# Altium footprint library CustomParts.PcbLib: 113 footprints (part 6 of 8)
Each footprint in its own frame and in the unit in brackets; x right, y up, seen from the top. Pads: shape width x height; smd on the part's side, far side on the other; paste and mask are expansions set on the pad; w line width, h text height; cw(c..) or ccw(c..) is an arc to the next point about the centre after c.
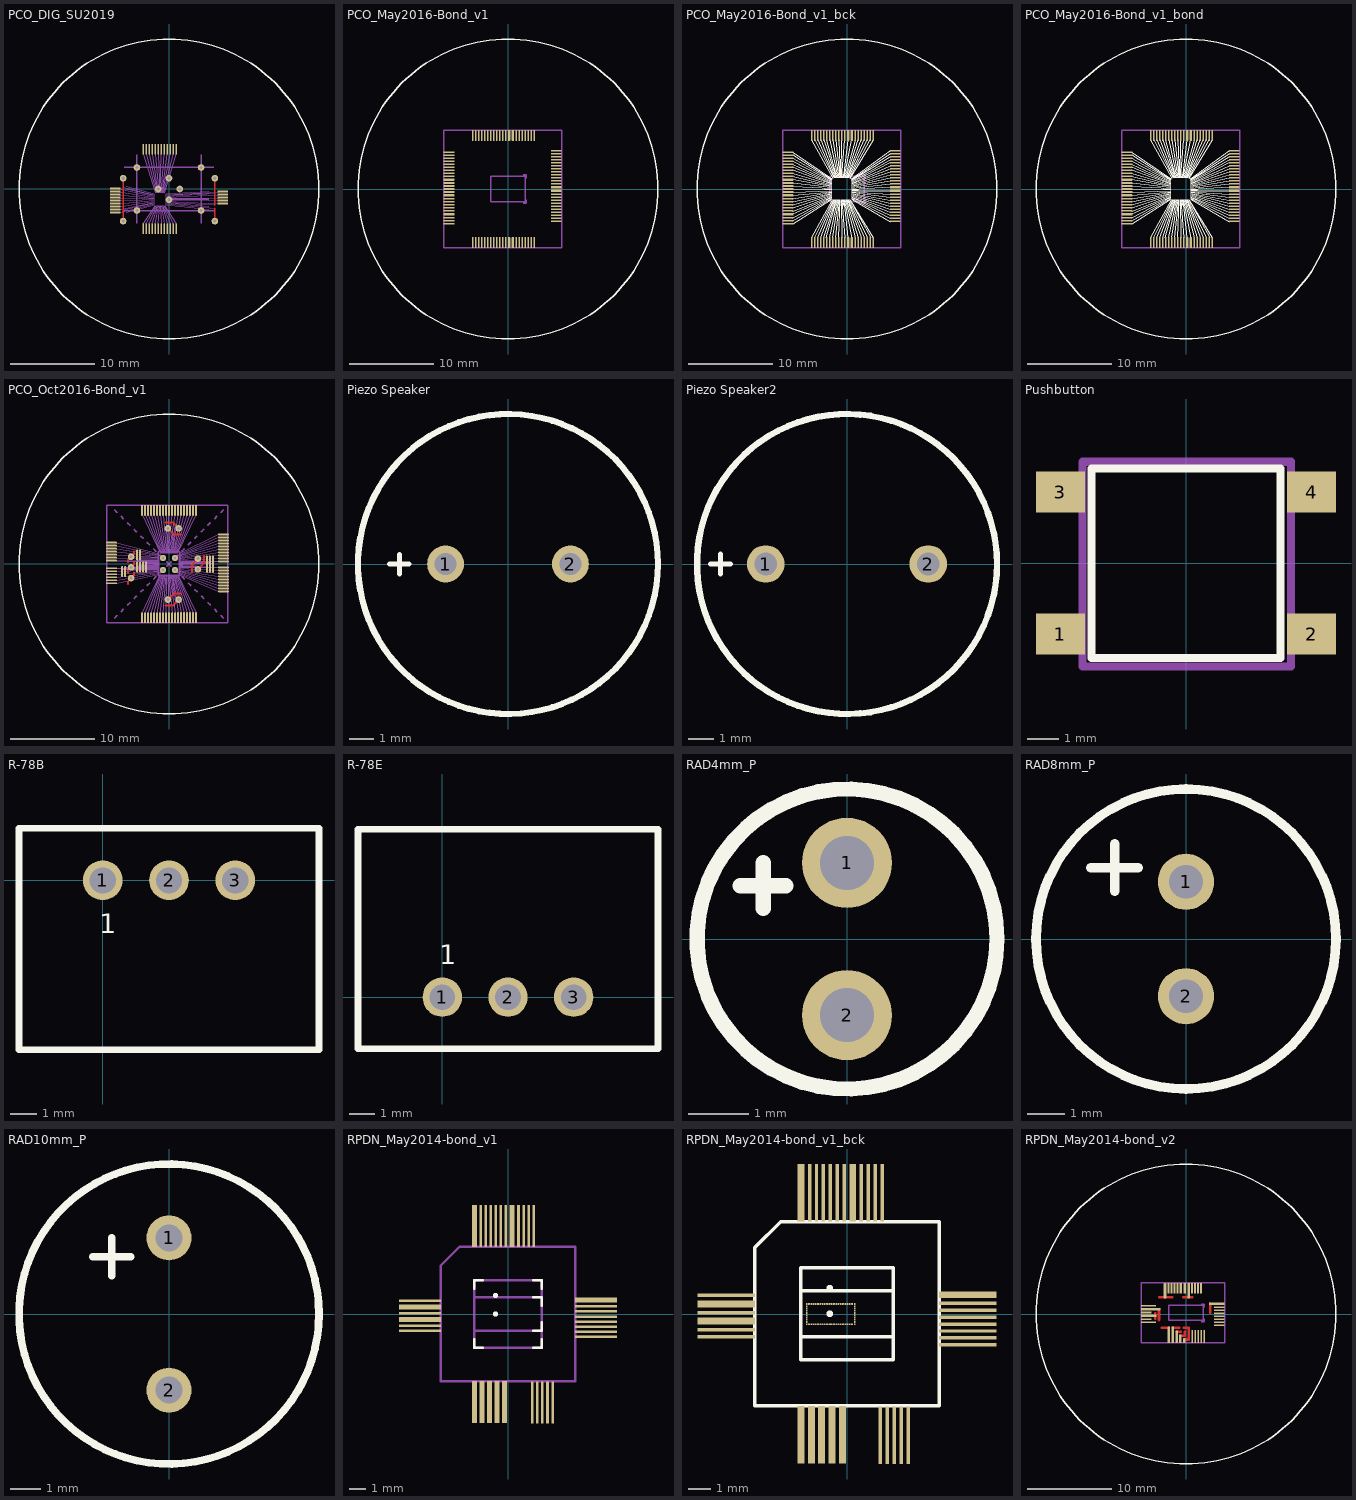
[diagram p5: the footprints below, top view; thin cyan lines are the x and y axes]

## PCO_DIG_SU2019 [mil] "Chip 5x7.5 mm. Die with margins ~ 5.1x7.6 mm. 1.5 mm bonding margin per side"
pads (102):
  round 31 hole 15: 1(-149.61,100.39) 2(-214,50) 3(-149.61,-100.39) 12(-214,-150) 14(-50,0) 27(0,-50) 28(214,-150) 29(50,0) 33(0,50) 34(149.61,-100.39) 37(214,50) 38(149.61,100.39)
  rrect50% 3.15x3.15 on Mech13 paste+0 mask+0: 1(-69.05,-21.82) 2(-69.05,-25.76) 3(-69.05,-29.69) 4(-69.05,-33.63) 5(-69.05,-37.57) 6(-69.05,-41.5) 7(-69.05,-45.44) 8(-69.05,-49.38) 9(-69.05,-53.31) 10(-69.05,-57.25) 11(-69.05,-61.19) 12(-69.05,-65.13) 13(-69.05,-69.06) 14(-69.05,-73) 15(-64.13,-77.92) 16(-60.19,-77.92) 17(-56.25,-77.92) 18(-52.31,-77.92) 19(-48.38,-77.92) 20(-44.44,-77.92) 21(-40.5,-77.92) 22(-36.57,-77.92) 23(-32.63,-77.92) 24(-28.69,-77.92) 25(-24.76,-77.92) 26(-20.82,-77.92) 27(-15.9,-73) 28(-15.9,-69.06) 29(-15.9,-65.13) 30(-15.9,-61.19) 31(-15.9,-57.25) 32(-15.9,-53.31) 33(-15.9,-49.38) 34(-15.9,-45.44) 35(-15.9,-41.5) 36(-15.9,-37.57) 37(-15.9,-33.63) 38(-15.9,-29.69) 39(-15.9,-25.76) 40(-15.9,-21.82) 41(-20.82,-16.9) 42(-24.76,-16.9) 43(-28.69,-16.9) 44(-32.63,-16.9) 45(-36.57,-16.9) 46(-40.5,-16.9) 47(-44.44,-16.9) 48(-48.38,-16.9) 49(-52.31,-16.9) 50(-56.25,-16.9) 51(-60.19,-16.9) 52(-64.13,-16.9)
  rrect50% 50x8 smd paste+0 mask+0: 4(-251,2) 5(-251,-12) 6(-251,-26) 7(-251,-40) 8(-251,-54) 9(-251,-68) 10(-251,-82) 11(-251,-96) 13(-251,-110) 31(251,-68) 32(251,-54) 35(251,-40) 36(251,-26) 39(251,-12)
  rrect50% 8x50 smd paste+0 mask+0: 15(-120,-185) 16(-106,-185) 17(-92,-185) 18(-78,-185) 19(-64,-185) 20(-50,-185) 21(-36,-185) 22(-22,-185) 23(-8,-185) 24(6,-185) 25(20,-185) 26(34,-185) 41(34,185) 42(20,185) 43(6,185) 44(-8,185) 45(-22,185) 46(-36,185) 47(-50,185) 48(-64,185) 49(-78,185) 50(-92,185) 51(-106,185) 52(-120,185)
Top Layer:
  lines w8: -214,-150 -214,50 ; 214,-150 214,-90 ; 214,-75 214,50
Top Overlay:
  circle w6: c0,0 r700
Top Solder:
  rectangle: -276,-210 276,210
Mechanical 13:
  lines w6: -208.66,-100.39 208.66,-100.39 ; -208.66,100.39 208.66,100.39 ; -149.61,-159.45 -149.61,159.45 ; 149.61,-159.45 149.61,159.45
Mechanical 16:
  lines w1.5: -235,-110 -69,-69 ; -235,-96 -69,-61 ; -235,-82 -69,-57 ; -235,-68 -69,-53 ; -235,-54 -69,-49 ; -235,-40 -69,-45 ; -235,-26 -69,-42 ; -235,-12 -69,-38 ; -235,2 -69,-34 ; -214,-98 -69,-65 ; -214,9 -69,-26 ; -200,-109 -69,-73 ; -200,0 -69,-30 ; -200,12 -69,-22 ; -120,-163 -64,-78 ; -120,163 -64,-17 ; -106,-163 -60,-78 ; -106,163 -60,-17 ; -92,-163 -56,-78 ; -92,163 -56,-17 ; -78,-163 -52,-78 ; -78,163 -52,-17 ; -64,-163 -48,-78 ; -64,163 -48,-17 ; -50,-163 -44,-78 ; -50,163 -44,-17 ; -40,-78 -36,-163 ; -40,-17 -36,163 ; -36,-78 -22,-163 ; -36,-17 -22,163 ; -32,-78 -8,-163 ; -32,-17 -8,163 ; -29,-78 6,-163 ; -29,-17 6,163 ; -25,-78 20,-163 ; -25,-17 20,163 ; -21,-78 34,-163 ; -21,-17 34,163 ; -16,-73 185,-95 ; -16,-69 214,-90 ; -16,-65 185,-80 ; -16,-61 214,-73 ; -16,-57 235,-68 ; -16,-53 235,-54 ; -16,-49 185,-50 ; -16,-45 185,-45 ; -16,-42 235,-40 ; -16,-38 235,-26 ; -16,-34 214,-20 ; -16,-30 185,-18 ; -16,-26 235,-12 ; -16,-22 185,-10

## PCO_May2016-Bond_v1 [mm]
pads (184):
  rrect50% 1.27x0.203 smd mask+0: 1(-6.985,-4.115) 2(-6.985,-3.759) 3(-6.985,-3.404) 5(-6.985,-2.591) 6(-6.985,-2.235) 7(-6.985,-1.88) 8(-6.985,-1.524) 9(-6.985,-1.168) 11(-6.985,-0.356) 12(-6.985,0) 14(-6.985,0.356) 15(-6.985,0.711) 17(-6.985,1.524) 18(-6.985,1.88) 19(-6.985,2.235) 20(-6.985,2.591) 21(-6.985,2.946) 22(-6.985,3.302) 23(-6.985,3.658) 24(-6.985,4.013) 25(-6.985,4.369) 48(5.715,4.547) 49(5.715,4.191) 50(5.715,3.835) 51(5.715,3.48) 52(5.715,3.124) 53(5.715,2.769) 54(5.715,2.413) 55(5.715,2.057) 56(5.715,1.702) 57(5.715,1.346) 58(5.715,0.991) 59(5.715,0.635) 63(5.715,-0.635) 64(5.715,-0.991) 65(5.715,-1.346) 66(5.715,-1.702) 67(5.715,-2.057) 68(5.715,-2.413) 69(5.715,-2.769) 70(5.715,-3.124) 71(5.715,-3.48) 72(5.715,-3.835)
  rrect50% 0.08x0.08 on Mech13 paste+0 mask+0: 1(-1.8,-1.2) 2(-1.8,-1.1) 3(-1.8,-1) 4(-1.8,-0.9) 5(-1.8,-0.8) 6(-1.8,-0.7) 7(-1.8,-0.6) 8(-1.8,-0.5) 9(-1.8,-0.4) 10(-1.8,-0.3) 11(-1.8,-0.2) 12(-1.8,-0.1) 13(-1.8,0) 14(-1.8,0.1) 15(-1.8,0.2) 16(-1.8,0.3) 17(-1.8,0.4) 18(-1.8,0.5) 19(-1.8,0.6) 20(-1.8,0.7) 21(-1.8,0.8) 22(-1.8,0.9) 23(-1.8,1) 24(-1.8,1.1) 25(-1.8,1.2) 26(-1.7,1.3) 27(-1.6,1.3) 28(-1.5,1.3) 29(-1.4,1.3) 30(-1.3,1.3) 31(-1.2,1.3) 32(-1.1,1.3) 33(-1,1.3) 34(-0.9,1.3) 35(-0.8,1.3) 36(-0.7,1.3) 37(-0.6,1.3) 38(-0.5,1.3) 39(-0.4,1.3) 40(-0.3,1.3) 41(-0.2,1.3) 42(-0.1,1.3) 43(0,1.3) 44(0.1,1.3) 45(0.2,1.3) 46(0.3,1.3) 47(0.4,1.3) 48(0.5,1.2) 49(0.5,1.1) 50(0.5,1) 51(0.5,0.9) 52(0.5,0.8) 53(0.5,0.7) 54(0.5,0.6) 55(0.5,0.5) 56(0.5,0.4) 57(0.5,0.3) 58(0.5,0.2) 59(0.5,0.1) 60(0.5,0) 61(0.5,-0.1) 62(0.5,-0.2) 63(0.5,-0.3) 64(0.5,-0.4) 65(0.5,-0.5) 66(0.5,-0.6) 67(0.5,-0.7) 68(0.5,-0.8) 69(0.5,-0.9) 70(0.5,-1) 71(0.5,-1.1) 72(0.5,-1.2) 73(0.4,-1.3) 74(0.3,-1.3) 75(0.2,-1.3) 76(0.1,-1.3) 77(0,-1.3) 78(-0.1,-1.3) 79(-0.2,-1.3) 80(-0.3,-1.3) 81(-0.4,-1.3) 82(-0.5,-1.3) 83(-0.6,-1.3) 84(-0.7,-1.3) 85(-0.8,-1.3) 86(-0.9,-1.3) 87(-1,-1.3) 88(-1.1,-1.3) 89(-1.2,-1.3) 90(-1.3,-1.3) 91(-1.4,-1.3) 92(-1.5,-1.3) 93(-1.6,-1.3) 94(-1.7,-1.3)
  rrect50% 1.27x0.305 smd mask+0: 4(-6.985,-2.997) 10(-6.985,-0.762) 16(-6.985,1.118) 60(5.715,0.229) 62(5.715,-0.229)
  rrect50% 0.203x1.27 smd mask+0: 26(-4.191,6.35) 27(-3.835,6.35) 28(-3.48,6.35) 29(-3.124,6.35) 30(-2.769,6.35) 31(-2.413,6.35) 32(-2.057,6.35) 33(-1.702,6.35) 34(-1.346,6.35) 35(-0.991,6.35) 36(-0.635,6.35) 37(-0.279,6.35) 41(0.991,6.35) 42(1.346,6.35) 43(1.702,6.35) 44(2.057,6.35) 45(2.413,6.35) 46(2.769,6.35) 47(3.124,6.35) 73(3.124,-6.35) 74(2.769,-6.35) 75(2.413,-6.35) 76(2.057,-6.35) 77(1.702,-6.35) 78(1.346,-6.35) 79(0.991,-6.35) 83(-0.279,-6.35) 84(-0.635,-6.35) 85(-0.991,-6.35) 86(-1.346,-6.35) 87(-1.702,-6.35) 88(-2.057,-6.35) 89(-2.413,-6.35) 90(-2.769,-6.35) 91(-3.124,-6.35) 92(-3.48,-6.35) 93(-3.835,-6.35) 94(-4.191,-6.35)
  rrect50% 0.305x1.27 smd mask+0: 39(0.127,6.35) 40(0.584,6.35) 80(0.584,-6.35) 81(0.127,-6.35)
Top Overlay:
  circle w0.152: c0,0 r17.78
Top Solder:
  rectangle: 1.727,-1.6 2.108,1.626
  rectangle: 2.108,-1.219 2.261,1.219
  rectangle: 2.261,-6.985 6.35,6.985
  rectangle: -7.62,-6.985 1.727,6.985
  rectangle: 1.727,-6.985 2.261,-1.753
  rectangle: 1.727,1.753 2.261,6.985
Mechanical 13:
  lines w0.152: 1.803,-1.676 2.184,-1.676 2.184,-1.295 ; 1.803,1.676 2.184,1.676 2.184,1.295 ; -7.62,-6.985 6.35,-6.985 6.35,6.985 -7.62,6.985 -7.62,-6.985 ; -2.032,-1.524 2.032,-1.524 2.032,1.524 -2.032,1.524 -2.032,-1.524

## PCO_May2016-Bond_v1_bck [mm]
pads (184):
  rrect50% 1.27x0.203 smd mask+0: 1(-6.985,-4.115) 2(-6.985,-3.759) 3(-6.985,-3.404) 5(-6.985,-2.591) 6(-6.985,-2.235) 7(-6.985,-1.88) 8(-6.985,-1.524) 9(-6.985,-1.168) 11(-6.985,-0.356) 12(-6.985,0) 14(-6.985,0.356) 15(-6.985,0.711) 17(-6.985,1.524) 18(-6.985,1.88) 19(-6.985,2.235) 20(-6.985,2.591) 21(-6.985,2.946) 22(-6.985,3.302) 23(-6.985,3.658) 24(-6.985,4.013) 25(-6.985,4.369) 48(5.715,4.547) 49(5.715,4.191) 50(5.715,3.835) 51(5.715,3.48) 52(5.715,3.124) 53(5.715,2.769) 54(5.715,2.413) 55(5.715,2.057) 56(5.715,1.702) 57(5.715,1.346) 58(5.715,0.991) 59(5.715,0.635) 63(5.715,-0.635) 64(5.715,-0.991) 65(5.715,-1.346) 66(5.715,-1.702) 67(5.715,-2.057) 68(5.715,-2.413) 69(5.715,-2.769) 70(5.715,-3.124) 71(5.715,-3.48) 72(5.715,-3.835)
  rrect50% 0.08x0.08 on Mech13 paste+0 mask+0: 1(-1.8,-1.2) 2(-1.8,-1.1) 3(-1.8,-1) 4(-1.8,-0.9) 5(-1.8,-0.8) 6(-1.8,-0.7) 7(-1.8,-0.6) 8(-1.8,-0.5) 9(-1.8,-0.4) 10(-1.8,-0.3) 11(-1.8,-0.2) 12(-1.8,-0.1) 13(-1.8,0) 14(-1.8,0.1) 15(-1.8,0.2) 16(-1.8,0.3) 17(-1.8,0.4) 18(-1.8,0.5) 19(-1.8,0.6) 20(-1.8,0.7) 21(-1.8,0.8) 22(-1.8,0.9) 23(-1.8,1) 24(-1.8,1.1) 25(-1.8,1.2) 26(-1.7,1.3) 27(-1.6,1.3) 28(-1.5,1.3) 29(-1.4,1.3) 30(-1.3,1.3) 31(-1.2,1.3) 32(-1.1,1.3) 33(-1,1.3) 34(-0.9,1.3) 35(-0.8,1.3) 36(-0.7,1.3) 37(-0.6,1.3) 38(-0.5,1.3) 39(-0.4,1.3) 40(-0.3,1.3) 41(-0.2,1.3) 42(-0.1,1.3) 43(0,1.3) 44(0.1,1.3) 45(0.2,1.3) 46(0.3,1.3) 47(0.4,1.3) 48(0.5,1.2) 49(0.5,1.1) 50(0.5,1) 51(0.5,0.9) 52(0.5,0.8) 53(0.5,0.7) 54(0.5,0.6) 55(0.5,0.5) 56(0.5,0.4) 57(0.5,0.3) 58(0.5,0.2) 59(0.5,0.1) 60(0.5,0) 61(0.5,-0.1) 62(0.5,-0.2) 63(0.5,-0.3) 64(0.5,-0.4) 65(0.5,-0.5) 66(0.5,-0.6) 67(0.5,-0.7) 68(0.5,-0.8) 69(0.5,-0.9) 70(0.5,-1) 71(0.5,-1.1) 72(0.5,-1.2) 73(0.4,-1.3) 74(0.3,-1.3) 75(0.2,-1.3) 76(0.1,-1.3) 77(0,-1.3) 78(-0.1,-1.3) 79(-0.2,-1.3) 80(-0.3,-1.3) 81(-0.4,-1.3) 82(-0.5,-1.3) 83(-0.6,-1.3) 84(-0.7,-1.3) 85(-0.8,-1.3) 86(-0.9,-1.3) 87(-1,-1.3) 88(-1.1,-1.3) 89(-1.2,-1.3) 90(-1.3,-1.3) 91(-1.4,-1.3) 92(-1.5,-1.3) 93(-1.6,-1.3) 94(-1.7,-1.3)
  rrect50% 1.27x0.305 smd mask+0: 4(-6.985,-2.997) 10(-6.985,-0.762) 16(-6.985,1.118) 60(5.715,0.229) 62(5.715,-0.229)
  rrect50% 0.203x1.27 smd mask+0: 26(-4.191,6.35) 27(-3.835,6.35) 28(-3.48,6.35) 29(-3.124,6.35) 30(-2.769,6.35) 31(-2.413,6.35) 32(-2.057,6.35) 33(-1.702,6.35) 34(-1.346,6.35) 35(-0.991,6.35) 36(-0.635,6.35) 37(-0.279,6.35) 41(0.991,6.35) 42(1.346,6.35) 43(1.702,6.35) 44(2.057,6.35) 45(2.413,6.35) 46(2.769,6.35) 47(3.124,6.35) 73(3.124,-6.35) 74(2.769,-6.35) 75(2.413,-6.35) 76(2.057,-6.35) 77(1.702,-6.35) 78(1.346,-6.35) 79(0.991,-6.35) 83(-0.279,-6.35) 84(-0.635,-6.35) 85(-0.991,-6.35) 86(-1.346,-6.35) 87(-1.702,-6.35) 88(-2.057,-6.35) 89(-2.413,-6.35) 90(-2.769,-6.35) 91(-3.124,-6.35) 92(-3.48,-6.35) 93(-3.835,-6.35) 94(-4.191,-6.35)
  rrect50% 0.305x1.27 smd mask+0: 39(0.127,6.35) 40(0.584,6.35) 80(0.584,-6.35) 81(0.127,-6.35)
Top Overlay:
  circle w0.152: c0,0 r17.78
  lines w0.038: -6.452,-3.759 -1.829,-1.092 ; -6.452,-3.429 -1.829,-0.991 ; -6.452,-2.946 -1.829,-0.889 ; -6.452,-2.235 -1.829,-0.686 ; -6.452,-0.737 -1.829,-0.305 ; -6.452,1.143 -1.829,0.305 ; -6.426,-2.616 -1.829,-0.787 ; -6.426,-1.88 -1.829,-0.584 ; -6.426,-1.524 -1.829,-0.483 ; -6.426,-1.168 -1.829,-0.381 ; -6.426,-0.356 -1.829,-0.203 ; -6.426,-0.025 -1.829,-0.102 ; -6.426,0.356 -1.829,0.102 ; -6.426,0.762 -1.829,0.203 ; -6.426,1.524 -1.829,0.406 ; -6.426,1.88 -1.829,0.508 ; -6.426,2.261 -1.829,0.61 ; -6.426,2.616 -1.829,0.711 ; -6.426,2.946 -1.829,0.813 ; -6.426,4.039 -1.829,1.118 ; -6.426,4.369 -1.829,1.219 ; -6.401,-4.115 -1.829,-1.194 ; -6.401,3.302 -1.829,0.914 ; -6.401,3.658 -1.829,1.016 ; -4.216,5.867 -1.702,1.295 ; -4.191,-5.791 -1.702,-1.295 ; -3.835,-5.766 -1.6,-1.295 ; -3.835,5.842 -1.6,1.321 ; -3.48,-5.766 -1.499,-1.295 ; -3.48,5.867 -1.499,1.321 ; -3.124,-5.766 -1.397,-1.295 ; -3.124,5.867 -1.397,1.321 ; -2.769,-5.791 -1.295,-1.295 ; -2.769,5.867 -1.295,1.321 ; -2.616,0.025 -1.803,0 ; -2.438,-5.791 -1.194,-1.295 ; -2.438,5.867 -1.194,1.321 ; -2.057,-5.791 -1.092,-1.295 ; -2.032,5.867 -1.092,1.321 ; -1.702,-5.791 -0.991,-1.295 ; -1.702,5.867 -0.991,1.321 ; -1.346,-5.791 -0.889,-1.295 ; -1.346,5.867 -0.889,1.321 ; -0.991,-5.791 -0.787,-1.295 ; -0.965,5.867 -0.787,1.321 ; -0.711,1.321 -0.635,5.842 ; -0.686,-1.295 -0.635,-5.791 ; -0.61,-1.295 -0.279,-5.791 ; -0.61,1.321 -0.279,5.842 ; -0.508,-1.295 -0.457,-1.93 ; -0.508,1.321 -0.457,1.778 ; -0.406,-1.295 0.102,-5.791 ; -0.406,1.321 0.127,5.817 ; -0.305,-1.295 0.559,-5.817 ; -0.305,1.321 0.584,5.817 ; -0.203,-1.295 0.965,-5.791 ; -0.203,1.321 1.016,5.842 ; -0.102,-1.295 1.346,-5.817 ; -0.102,1.321 1.346,5.842 ; 0,-1.295 1.702,-5.791 ; 0,1.321 1.702,5.817 ; 0.102,-1.295 2.032,-5.791 ; 0.102,1.321 2.057,5.817 ; 0.203,-1.295 2.388,-5.791 ; 0.203,1.321 2.413,5.842 ; 0.305,-1.295 2.794,-5.791 ; 0.305,1.321 2.769,5.842 ; 0.406,-1.321 3.124,-5.791 ; 0.406,1.295 3.124,5.791 ; 0.533,-1.194 5.156,-3.861 ; 0.533,-1.092 5.131,-3.454 ; 0.533,-0.991 5.131,-3.124 ; 0.533,-0.889 5.105,-2.743 ; 0.533,-0.787 5.105,-2.388 ; 0.533,-0.686 5.131,-2.057 ; 0.533,-0.584 5.131,-1.702 ; 0.533,-0.508 5.131,-1.346 ; 0.533,-0.406 5.131,-0.991 ; 0.533,-0.305 5.156,-0.635 ; 0.533,-0.203 5.156,-0.229 ; 0.533,-0.102 1.321,-0.102 ; 0.533,0 5.131,0.254 ; 0.533,0.102 5.131,0.635 ; 0.533,0.203 5.131,0.991 ; 0.533,0.305 5.131,1.346 ; 0.533,0.406 5.131,1.676 ; 0.533,0.508 5.131,2.057 ; 0.533,0.61 5.131,2.413 ; 0.533,0.711 5.131,2.743 ; 0.533,0.813 5.131,3.15 ; 0.533,0.914 5.131,3.48 ; 0.533,1.016 5.131,3.835 ; 0.533,1.118 5.131,4.191 ; 0.533,1.219 5.105,4.547
Top Solder:
  rectangle: 1.727,-1.6 2.108,1.626
  rectangle: 2.108,-1.219 2.261,1.219
  rectangle: 2.261,-6.985 6.35,6.985
  rectangle: -7.62,-6.985 1.727,6.985
  rectangle: 1.727,-6.985 2.261,-1.753
  rectangle: 1.727,1.753 2.261,6.985
Mechanical 13:
  lines w0.152: 1.803,-1.676 2.184,-1.676 2.184,-1.295 ; 1.803,1.676 2.184,1.676 2.184,1.295 ; -7.62,-6.985 6.35,-6.985 6.35,6.985 -7.62,6.985 -7.62,-6.985 ; -2.032,-1.524 2.032,-1.524 2.032,1.524 -2.032,1.524 -2.032,-1.524

## PCO_May2016-Bond_v1_bond [mm]
pads (184):
  rrect50% 1.27x0.203 smd mask+0: 1(-6.985,-4.115) 2(-6.985,-3.759) 3(-6.985,-3.404) 5(-6.985,-2.591) 6(-6.985,-2.235) 7(-6.985,-1.88) 8(-6.985,-1.524) 9(-6.985,-1.168) 11(-6.985,-0.356) 12(-6.985,0) 14(-6.985,0.356) 15(-6.985,0.711) 17(-6.985,1.524) 18(-6.985,1.88) 19(-6.985,2.235) 20(-6.985,2.591) 21(-6.985,2.946) 22(-6.985,3.302) 23(-6.985,3.658) 24(-6.985,4.013) 25(-6.985,4.369) 48(5.715,4.547) 49(5.715,4.191) 50(5.715,3.835) 51(5.715,3.48) 52(5.715,3.124) 53(5.715,2.769) 54(5.715,2.413) 55(5.715,2.057) 56(5.715,1.702) 57(5.715,1.346) 58(5.715,0.991) 59(5.715,0.635) 63(5.715,-0.635) 64(5.715,-0.991) 65(5.715,-1.346) 66(5.715,-1.702) 67(5.715,-2.057) 68(5.715,-2.413) 69(5.715,-2.769) 70(5.715,-3.124) 71(5.715,-3.48) 72(5.715,-3.835)
  rrect50% 0.08x0.08 on Mech13 paste+0 mask+0: 1(-1.8,-1.2) 2(-1.8,-1.1) 3(-1.8,-1) 4(-1.8,-0.9) 5(-1.8,-0.8) 6(-1.8,-0.7) 7(-1.8,-0.6) 8(-1.8,-0.5) 9(-1.8,-0.4) 10(-1.8,-0.3) 11(-1.8,-0.2) 12(-1.8,-0.1) 13(-1.8,0) 14(-1.8,0.1) 15(-1.8,0.2) 16(-1.8,0.3) 17(-1.8,0.4) 18(-1.8,0.5) 19(-1.8,0.6) 20(-1.8,0.7) 21(-1.8,0.8) 22(-1.8,0.9) 23(-1.8,1) 24(-1.8,1.1) 25(-1.8,1.2) 26(-1.7,1.3) 27(-1.6,1.3) 28(-1.5,1.3) 29(-1.4,1.3) 30(-1.3,1.3) 31(-1.2,1.3) 32(-1.1,1.3) 33(-1,1.3) 34(-0.9,1.3) 35(-0.8,1.3) 36(-0.7,1.3) 37(-0.6,1.3) 38(-0.5,1.3) 39(-0.4,1.3) 40(-0.3,1.3) 41(-0.2,1.3) 42(-0.1,1.3) 43(0,1.3) 44(0.1,1.3) 45(0.2,1.3) 46(0.3,1.3) 47(0.4,1.3) 48(0.5,1.2) 49(0.5,1.1) 50(0.5,1) 51(0.5,0.9) 52(0.5,0.8) 53(0.5,0.7) 54(0.5,0.6) 55(0.5,0.5) 56(0.5,0.4) 57(0.5,0.3) 58(0.5,0.2) 59(0.5,0.1) 60(0.5,0) 61(0.5,-0.1) 62(0.5,-0.2) 63(0.5,-0.3) 64(0.5,-0.4) 65(0.5,-0.5) 66(0.5,-0.6) 67(0.5,-0.7) 68(0.5,-0.8) 69(0.5,-0.9) 70(0.5,-1) 71(0.5,-1.1) 72(0.5,-1.2) 73(0.4,-1.3) 74(0.3,-1.3) 75(0.2,-1.3) 76(0.1,-1.3) 77(0,-1.3) 78(-0.1,-1.3) 79(-0.2,-1.3) 80(-0.3,-1.3) 81(-0.4,-1.3) 82(-0.5,-1.3) 83(-0.6,-1.3) 84(-0.7,-1.3) 85(-0.8,-1.3) 86(-0.9,-1.3) 87(-1,-1.3) 88(-1.1,-1.3) 89(-1.2,-1.3) 90(-1.3,-1.3) 91(-1.4,-1.3) 92(-1.5,-1.3) 93(-1.6,-1.3) 94(-1.7,-1.3)
  rrect50% 1.27x0.305 smd mask+0: 4(-6.985,-2.997) 10(-6.985,-0.762) 16(-6.985,1.118) 60(5.715,0.229) 62(5.715,-0.229)
  rrect50% 0.203x1.27 smd mask+0: 26(-4.191,6.35) 27(-3.835,6.35) 28(-3.48,6.35) 29(-3.124,6.35) 30(-2.769,6.35) 31(-2.413,6.35) 32(-2.057,6.35) 33(-1.702,6.35) 34(-1.346,6.35) 35(-0.991,6.35) 36(-0.635,6.35) 37(-0.279,6.35) 41(0.991,6.35) 42(1.346,6.35) 43(1.702,6.35) 44(2.057,6.35) 45(2.413,6.35) 46(2.769,6.35) 47(3.124,6.35) 73(3.124,-6.35) 74(2.769,-6.35) 75(2.413,-6.35) 76(2.057,-6.35) 77(1.702,-6.35) 78(1.346,-6.35) 79(0.991,-6.35) 83(-0.279,-6.35) 84(-0.635,-6.35) 85(-0.991,-6.35) 86(-1.346,-6.35) 87(-1.702,-6.35) 88(-2.057,-6.35) 89(-2.413,-6.35) 90(-2.769,-6.35) 91(-3.124,-6.35) 92(-3.48,-6.35) 93(-3.835,-6.35) 94(-4.191,-6.35)
  rrect50% 0.305x1.27 smd mask+0: 39(0.127,6.35) 40(0.584,6.35) 80(0.584,-6.35) 81(0.127,-6.35)
Top Overlay:
  circle w0.152: c0,0 r17.78
  lines w0.038: -6.452,-3.759 -1.829,-1.092 ; -6.452,-3.429 -1.829,-0.991 ; -6.452,-2.946 -1.829,-0.889 ; -6.452,-2.235 -1.829,-0.686 ; -6.452,-0.737 -1.829,-0.305 ; -6.452,1.143 -1.829,0.305 ; -6.426,-2.616 -1.829,-0.787 ; -6.426,-1.88 -1.829,-0.584 ; -6.426,-1.524 -1.829,-0.483 ; -6.426,-1.168 -1.829,-0.381 ; -6.426,-0.356 -1.829,-0.203 ; -6.426,-0.025 -1.829,-0.102 ; -6.426,0.356 -1.829,0.102 ; -6.426,0.762 -1.829,0.203 ; -6.426,1.524 -1.829,0.406 ; -6.426,1.88 -1.829,0.508 ; -6.426,2.261 -1.829,0.61 ; -6.426,2.616 -1.829,0.711 ; -6.426,2.946 -1.829,0.813 ; -6.426,4.039 -1.829,1.118 ; -6.426,4.369 -1.829,1.219 ; -6.401,-4.115 -1.829,-1.194 ; -6.401,3.302 -1.829,0.914 ; -6.401,3.658 -1.829,1.016 ; -4.216,5.867 -1.702,1.295 ; -4.191,-5.791 -1.702,-1.295 ; -3.835,-5.766 -1.6,-1.295 ; -3.835,5.842 -1.6,1.321 ; -3.48,-5.766 -1.499,-1.295 ; -3.48,5.867 -1.499,1.321 ; -3.124,-5.766 -1.397,-1.295 ; -3.124,5.867 -1.397,1.321 ; -2.769,-5.791 -1.295,-1.295 ; -2.769,5.867 -1.295,1.321 ; -2.616,0.025 -1.803,0 ; -2.438,-5.791 -1.194,-1.295 ; -2.438,5.867 -1.194,1.321 ; -2.057,-5.791 -1.092,-1.295 ; -2.032,5.867 -1.092,1.321 ; -1.702,-5.791 -0.991,-1.295 ; -1.702,5.867 -0.991,1.321 ; -1.346,-5.791 -0.889,-1.295 ; -1.346,5.867 -0.889,1.321 ; -0.991,-5.791 -0.787,-1.295 ; -0.965,5.867 -0.787,1.321 ; -0.711,1.321 -0.635,5.842 ; -0.686,-1.295 -0.635,-5.791 ; -0.61,-1.295 -0.279,-5.791 ; -0.61,1.321 -0.279,5.842 ; -0.508,-1.295 -0.457,-1.93 ; -0.508,1.321 -0.457,1.778 ; -0.406,-1.295 0.102,-5.791 ; -0.406,1.321 0.127,5.817 ; -0.305,-1.295 0.559,-5.817 ; -0.305,1.321 0.584,5.817 ; -0.203,-1.295 0.965,-5.791 ; -0.203,1.321 1.016,5.842 ; -0.102,-1.295 1.346,-5.817 ; -0.102,1.321 1.346,5.842 ; 0,-1.295 1.702,-5.791 ; 0,1.321 1.702,5.817 ; 0.102,-1.295 2.032,-5.791 ; 0.102,1.321 2.057,5.817 ; 0.203,-1.295 2.388,-5.791 ; 0.203,1.321 2.413,5.842 ; 0.305,-1.295 2.794,-5.791 ; 0.305,1.321 2.769,5.842 ; 0.406,-1.321 3.124,-5.791 ; 0.406,1.295 3.124,5.791 ; 0.533,-1.194 5.156,-3.861 ; 0.533,-1.092 5.131,-3.454 ; 0.533,-0.991 5.131,-3.124 ; 0.533,-0.889 5.105,-2.743 ; 0.533,-0.787 5.105,-2.388 ; 0.533,-0.686 5.131,-2.057 ; 0.533,-0.584 5.131,-1.702 ; 0.533,-0.508 5.131,-1.346 ; 0.533,-0.406 5.131,-0.991 ; 0.533,-0.305 5.156,-0.635 ; 0.533,-0.203 5.156,-0.229 ; 0.533,-0.102 1.321,-0.102 ; 0.533,0 5.131,0.254 ; 0.533,0.102 5.131,0.635 ; 0.533,0.203 5.131,0.991 ; 0.533,0.305 5.131,1.346 ; 0.533,0.406 5.131,1.676 ; 0.533,0.508 5.131,2.057 ; 0.533,0.61 5.131,2.413 ; 0.533,0.711 5.131,2.743 ; 0.533,0.813 5.131,3.15 ; 0.533,0.914 5.131,3.48 ; 0.533,1.016 5.131,3.835 ; 0.533,1.118 5.131,4.191 ; 0.533,1.219 5.105,4.547
Mechanical 13:
  lines w0.152: -7.62,-6.985 6.35,-6.985 6.35,6.985 -7.62,6.985 -7.62,-6.985

## PCO_Oct2016-Bond_v1 [mm]
pads (188):
  rrect50% 1.27x0.203 smd mask+0: 1(-6.807,-2.286) 2(-6.807,-1.93) 3(-6.807,-1.575) 5(-6.807,-1.219) 6(-6.807,-0.864) 8(-6.807,-0.508) 17(-6.807,0.406) 19(-6.807,0.762) 21(-6.807,1.118) 22(-6.807,1.473) 23(-6.807,1.829) 24(-6.807,2.184) 25(-6.807,2.54) 48(6.452,3.505) 49(6.452,3.15) 50(6.452,2.794) 51(6.452,2.438) 52(6.452,2.083) 53(6.452,1.727) 54(6.452,1.372) 55(6.452,1.016) 56(6.452,0.66) 57(6.452,0.305) 64(6.452,-0.406) 65(6.452,-0.762) 66(6.452,-1.118) 67(6.452,-1.473) 68(6.452,-1.829) 69(6.452,-2.184) 70(6.452,-2.54) 71(6.452,-2.896) 72(6.452,-3.251)
  rrect50% 0.08x0.08 on Mech13 paste+0 mask+0: 1(-1.15,-1.2) 2(-1.15,-1.1) 3(-1.15,-1) 4(-1.15,-0.9) 5(-1.15,-0.8) 6(-1.15,-0.7) 7(-1.15,-0.6) 8(-1.15,-0.5) 9(-1.15,-0.4) 10(-1.15,-0.3) 11(-1.15,-0.2) 12(-1.15,-0.1) 13(-1.15,0) 14(-1.15,0.1) 15(-1.15,0.2) 16(-1.15,0.3) 17(-1.15,0.4) 18(-1.15,0.5) 19(-1.15,0.6) 20(-1.15,0.7) 21(-1.15,0.8) 22(-1.15,0.9) 23(-1.15,1) 24(-1.15,1.1) 25(-1.15,1.2) 26(-1.05,1.3) 27(-0.95,1.3) 28(-0.85,1.3) 29(-0.75,1.3) 30(-0.65,1.3) 31(-0.55,1.3) 32(-0.45,1.3) 33(-0.35,1.3) 34(-0.25,1.3) 35(-0.15,1.3) 36(-0.05,1.3) 37(0.05,1.3) 38(0.15,1.3) 39(0.25,1.3) 40(0.35,1.3) 41(0.45,1.3) 42(0.55,1.3) 43(0.65,1.3) 44(0.75,1.3) 45(0.85,1.3) 46(0.95,1.3) 47(1.05,1.3) 48(1.15,1.2) 49(1.15,1.1) 50(1.15,1) 51(1.15,0.9) 52(1.15,0.8) 53(1.15,0.7) 54(1.15,0.6) 55(1.15,0.5) 56(1.15,0.4) 57(1.15,0.3) 58(1.15,0.2) 59(1.15,0.1) 60(1.15,0) 61(1.15,-0.1) 62(1.15,-0.2) 63(1.15,-0.3) 64(1.15,-0.4) 65(1.15,-0.5) 66(1.15,-0.6) 67(1.15,-0.7) 68(1.15,-0.8) 69(1.15,-0.9) 70(1.15,-1) 71(1.15,-1.1) 72(1.15,-1.2) 73(1.05,-1.3) 74(0.95,-1.3) 75(0.85,-1.3) 76(0.75,-1.3) 77(0.65,-1.3) 78(0.55,-1.3) 79(0.45,-1.3) 80(0.35,-1.3) 81(0.25,-1.3) 82(0.15,-1.3) 83(0.05,-1.3) 84(-0.05,-1.3) 85(-0.15,-1.3) 86(-0.25,-1.3) 87(-0.35,-1.3) 88(-0.45,-1.3) 89(-0.55,-1.3) 90(-0.65,-1.3) 91(-0.75,-1.3) 92(-0.85,-1.3) 93(-0.95,-1.3) 94(-1.05,-1.3)
  round 0.787 hole 0.381: 4(-4.496,-1.676) 10(-4.496,-0.406) 16(-4.496,0.864) 39(-0.127,4.216) 40(1.143,4.216) 60(3.429,0.635) 62(3.429,-0.635) 80(1.143,-4.216) 81(-0.127,-4.216)
  rrect50% 0.203x1.27 smd mask+0: 7(-5.563,-0.889) 9(-5.207,-0.889) 11(-3.785,-0.356) 12(-3.429,-0.356) 14(-2.718,-0.356) 15(-3.073,-0.356) 18(-3.785,1.067) 20(-3.429,1.067) 26(-3.2,6.35) 27(-2.845,6.35) 28(-2.489,6.35) 29(-2.134,6.35) 30(-1.778,6.35) 31(-1.422,6.35) 32(-1.067,6.35) 33(-0.711,6.35) 34(-0.356,6.35) 35(0,6.35) 36(0.356,6.35) 37(0.711,6.35) 41(1.067,6.35) 42(1.422,6.35) 43(1.778,6.35) 44(2.134,6.35) 45(2.489,6.35) 46(2.845,6.35) 47(3.2,6.35) 73(3.2,-6.35) 74(2.845,-6.35) 75(2.489,-6.35) 76(2.134,-6.35) 77(1.778,-6.35) 78(1.422,-6.35) 79(1.067,-6.35) 83(0.711,-6.375) 84(0.356,-6.375) 85(0,-6.375) 86(-0.356,-6.375) 87(-0.711,-6.375) 88(-1.067,-6.375) 89(-1.422,-6.375) 90(-1.778,-6.375) 91(-2.134,-6.375) 92(-2.489,-6.375) 93(-2.845,-6.375) 94(-3.2,-6.375)
  round 0.762 hole 0.381: 13(-0.711,0.711) 38(0.711,0.711) 61(0.711,-0.711) 82(-0.711,-0.711)
  rrect50% 0.203x2.032 smd mask+0: 58(4.851,-0.025) 59(5.207,-0.025) 63(4.496,-0.025)
Top Layer:
  lines w0.203: -4.851,-2.362 -4.851,-2.057 ; -4.851,-2.032 -4.496,-1.676 -4.14,-1.321 ; -4.851,-1.067 -4.851,-0.762 -4.496,-0.406 -4.14,-0.051 -4.14,0.254 ; -4.851,0.203 -4.851,0.508 -4.496,0.864 -4.14,1.219 -4.14,1.524 ; -4.14,-1.295 -4.14,-0.991 ; -0.432,-4.928 0.432,-4.928 1.143,-4.216 ; -0.432,4.928 0.432,4.928 1.143,4.216 ; -0.127,-4.216 0.584,-3.505 1.448,-3.505 ; -0.127,4.216 0.584,3.505 1.448,3.505 ; 2.718,-0.94 2.718,-0.076 3.429,0.635 ; 3.429,-0.635 4.14,0.076 4.14,0.94
Top Overlay:
  circle w0.152: c0,0 r17.78
Top Solder:
  rectangle: -1.524,-1.499 1.524,1.499
  region: -6.757,6.858 -1.397,1.499 1.372,1.499 6.731,6.858
  region: 6.858,-6.731 1.524,-1.397 1.524,1.397 6.858,6.731
  region: -6.858,6.731 -1.524,1.397 -1.524,-1.397 -6.858,-6.731
  region: 6.757,-6.858 1.397,-1.499 -1.372,-1.499 -6.731,-6.858
  lines w0.203: -6.756,-6.756 -6.502,-6.502 ; -6.756,6.756 -6.502,6.502 ; -6.02,-6.02 -5.766,-5.766 ; -6.02,6.02 -5.766,5.766 ; -5.258,-5.258 -5.004,-5.004 ; -5.258,5.258 -5.004,5.004 ; -4.47,-4.47 -4.216,-4.216 ; -4.47,4.47 -4.216,4.216 ; -3.708,-3.708 -3.454,-3.454 ; -3.708,3.708 -3.454,3.454 ; -2.921,-2.921 -2.667,-2.667 ; -2.921,2.921 -2.667,2.667 ; -2.159,-2.159 -1.905,-1.905 ; -2.159,2.159 -1.905,1.905 ; 1.905,-1.905 2.159,-2.159 ; 1.905,1.905 2.159,2.159 ; 2.667,-2.667 2.921,-2.921 ; 2.667,2.667 2.921,2.921 ; 3.454,-3.454 3.708,-3.708 ; 3.454,3.454 3.708,3.708 ; 4.216,-4.216 4.47,-4.47 ; 4.216,4.216 4.47,4.47 ; 5.004,-5.004 5.258,-5.258 ; 5.004,5.004 5.258,5.258 ; 5.766,-5.766 6.02,-6.02 ; 5.766,5.766 6.02,6.02 ; 6.502,-6.502 6.756,-6.756 ; 6.502,6.502 6.756,6.756
Mechanical 13:
  lines w0.152: -7.366,-6.985 -7.366,6.985 6.985,6.985 6.985,-6.985 -7.366,-6.985 ; -1.27,-1.422 -1.27,1.422 1.27,1.422 1.27,-1.422 -1.27,-1.422
  lines w0.203: -6.426,-6.401 -6.172,-6.147 ; -6.426,6.401 -6.172,6.147 ; -5.664,-5.639 -5.41,-5.385 ; -5.664,5.639 -5.41,5.385 ; -4.877,-4.851 -4.623,-4.597 ; -4.115,-4.089 -3.861,-3.835 ; -4.115,4.089 -3.861,3.835 ; -3.327,-3.302 -3.073,-3.048 ; -3.327,3.302 -3.073,3.048 ; -2.565,-2.54 -2.311,-2.286 ; -2.565,2.54 -2.311,2.286 ; -1.803,-1.778 -1.549,-1.524 ; -1.803,1.778 -1.549,1.524 ; -1.041,-1.016 -0.787,-0.762 ; -1.041,1.016 -0.787,0.762 ; -0.279,-0.254 -0.025,0 -0.279,0.254 ; 0.025,0 0.279,-0.254 ; 0.762,0.762 1.016,1.016 ; 0.787,-0.762 1.041,-1.016 ; 1.524,1.524 1.778,1.778 ; 1.549,-1.524 1.803,-1.778 ; 2.286,2.286 2.54,2.54 ; 2.311,-2.286 2.565,-2.54 ; 3.048,3.048 3.302,3.302 ; 3.073,-3.048 3.327,-3.302 ; 3.835,3.835 4.089,4.089 ; 3.861,-3.835 4.115,-4.089 ; 4.597,4.597 4.851,4.851 ; 4.623,-4.597 4.877,-4.851 ; 5.41,-5.385 5.664,-5.639 ; 5.41,5.385 5.664,5.639 ; 6.172,-6.147 6.426,-6.401 ; 6.172,6.147 6.426,6.401 ; -4.877,4.851 -4.623,4.597 -4.877,4.851 ; 0,0 0.254,0.254 0,0
Mechanical 16:
  lines w0.038: -6.248,-2.286 -1.143,-1.194 ; -6.248,-1.93 -1.143,-1.092 ; -6.248,-1.575 -1.143,-0.991 ; -6.248,-1.219 -1.143,-0.787 ; -6.223,-0.864 -1.143,-0.686 ; -6.223,-0.508 -1.143,-0.508 ; -6.223,0.406 -1.143,0.406 ; -6.223,0.762 -1.143,0.61 ; -6.223,1.118 -1.143,0.787 ; -6.223,1.473 -1.143,0.914 ; -6.223,1.829 -1.143,1.016 ; -6.223,2.184 -1.143,1.092 ; -6.223,2.54 -1.143,1.194 ; -5.563,-0.61 -1.143,-0.61 ; -5.207,-0.406 -1.143,-0.406 ; -4.877,0.305 -1.143,0.305 ; -4.089,-1.168 -1.143,-0.889 ; -4.013,-0.305 -1.143,-0.305 ; -3.785,-0.203 -1.143,-0.203 ; -3.785,0.508 -1.143,0.508 ; -3.429,-0.102 -1.143,-0.102 ; -3.429,0.813 -1.143,0.711 ; -3.2,-5.817 -1.052,-1.295 ; -3.2,5.817 -1.052,1.295 ; -3.099,0.203 -1.153,0.203 ; -2.845,-5.817 -0.95,-1.295 ; -2.845,5.817 -0.95,1.295 ; -2.718,0.102 -1.153,0.102 ; -2.489,-5.842 -0.849,-1.295 ; -2.489,5.842 -0.849,1.295 ; -2.134,-5.842 -0.747,-1.295 ; -2.134,5.842 -0.747,1.295 ; -1.803,0 -1.168,0 ; -1.778,-5.842 -0.645,-1.295 ; -1.778,5.842 -0.645,1.295 ; -1.422,-5.817 -0.544,-1.295 ; -1.422,5.817 -0.544,1.295 ; -1.067,-5.817 -0.442,-1.295 ; -1.067,5.817 -0.442,1.295 ; -0.711,-5.817 -0.341,-1.295 ; -0.711,5.817 -0.341,1.295 ; -0.356,-5.817 -0.239,-1.295 ; -0.356,5.817 -0.239,1.295 ; -0.137,-1.295 -0.025,-5.817 ; -0.137,1.295 -0.025,5.817 ; -0.061,-1.295 0.356,-5.842 ; -0.061,1.295 0.356,5.842 ; 0.051,-1.295 0.711,-5.842 ; 0.051,1.295 0.711,5.842 ; 0.152,-1.295 0.203,-1.727 ; 0.152,1.295 0.203,1.727 ; 0.254,-1.295 0.508,-3.708 ; 0.254,1.295 0.508,3.708 ; 0.356,-1.295 0.711,-4.547 ; 0.356,1.295 0.711,4.547 ; 0.447,-1.295 1.067,-5.842 ; 0.447,1.295 1.067,5.842 ; 0.548,-1.295 1.422,-5.842 ; 0.548,1.295 1.422,5.842 ; 0.65,-1.295 1.778,-5.842 ; 0.65,1.295 1.778,5.842 ; 0.752,-1.295 2.134,-5.817 ; 0.752,1.295 2.134,5.817 ; 0.853,-1.295 2.489,-5.842 ; 0.853,1.295 2.489,5.842 ; 0.955,-1.295 2.845,-5.817 ; 0.955,1.295 2.845,5.817 ; 1.041,-1.295 3.2,-5.842 ; 1.041,1.295 3.2,5.842 ; 1.143,-1.194 5.867,-3.251 ; 1.143,-1.092 5.867,-2.896 ; 1.143,-0.991 5.867,-2.54 ; 1.143,-0.889 5.867,-2.184 ; 1.143,-0.787 5.867,-1.829 ; 1.143,-0.61 5.867,-1.118 ; 1.143,-0.508 5.867,-0.762 ; 1.143,-0.406 5.867,-0.406 ; 1.143,-0.305 4.496,-0.305 ; 1.143,-0.203 3.251,-0.203 ; 1.143,0 2.946,0 ; 1.143,0.102 5.207,0.102 ; 1.143,0.203 4.877,0.203 ; 1.143,0.305 5.867,0.305 ; 1.143,0.406 5.867,0.66 ; 1.143,0.508 5.867,1.016 ; 1.143,0.61 5.893,1.372 ; 1.143,0.686 5.867,1.727 ; 1.143,0.787 5.867,2.083 ; 1.143,0.889 5.867,2.438 ; 1.143,0.991 5.867,2.794 ; 1.143,1.092 5.867,3.15 ; 1.143,1.194 5.867,3.505 ; 1.153,-0.711 5.867,-1.473 ; 1.183,-0.102 1.626,-0.102

## Piezo Speaker [mm] "5mm pitch, 12.2 mm diameter"
pads (2):
  round 1.5 hole 0.9: 1(-2.54,0) 2(2.54,0)
Top Overlay:
  circle w0.254: c0,0 r6.1
  lines w0.203: -4.826,0 -4.026,0 ; -4.42,-0.406 -4.42,0.394

## Piezo Speaker2 [mm] "6.5mm pitch, 12 mm diameter"
pads (2):
  round 1.5 hole 0.9: 1(-3.25,0) 2(3.25,0)
Top Overlay:
  circle w0.254: c0,0 r6
  lines w0.203: -5.461,0 -4.661,0 ; -5.055,-0.406 -5.055,0.394

## Pushbutton [mm] "Pushbutton 6.00mm x 6.00mm Gull Wing Termination"
pads (4):
  rect 1.55x1.3 smd: 1(-3.975,-2.25) 2(3.975,-2.25) 3(-3.975,2.25) 4(3.975,2.25)
Top Overlay:
  lines w0.254: -3,-3 3,-3 3,3 -3,3 -3,-3
Mechanical 13:
  lines w0.254: 3.324,3.211 -3.28,3.211 -3.28,-3.266 3.324,-3.266 3.324,3.211
3D body: height 4, standoff 0, extent -3.28,-3.266 3.324,3.211

## R-78B [mil] "Recom Power 3-SIP R-78B Sries Switching Regulators"
height 456.69
pads (3):
  round 60 hole 39.37: 1(0,0) 2(100,0) 3(200,0)
Top Overlay:
  lines w10: -126.38,-255.91 326.38,-255.91 326.38,78.74 -126.38,78.74 -126.38,-255.91
  text "1" at -5,-80 h30
3D body: height 688.98, standoff 0, extent -126,-256 327,79

## R-78E [mil] "Recom Power 3-SIP R-78E Sries Switching Regulators"
height 456.69
pads (3):
  round 60 hole 39.37: 1(0,0) 2(100,0) 3(200,0)
Top Overlay:
  lines w10: -128.35,-78.74 -128.35,255.91 328.35,255.91 328.35,-78.74 -128.35,-78.74
  text "1" at -5,50 h30
3D body: height 409.45, standoff 0, extent -129,-79 329,256

## RAD4mm_P [mm] "Radial Capacitor (polarized) 4 mm"
pads (2):
  round 1.5 hole 0.9: 1(0,1.27) 2(0,-1.27)
Top Overlay:
  circle w0.254: c0,0 r2.5
  lines w0.254: -1.778,0.889 -1.016,0.889 ; -1.397,0.508 -1.397,1.27

## RAD8mm_P [mm] "Radial Capacitor (polarized) 8 mm"
pads (2):
  round 1.5 hole 0.9: 1(0,1.524) 2(0,-1.524)
Top Overlay:
  circle w0.254: c0,0 r4
  lines w0.254: -2.54,1.905 -1.27,1.905 ; -1.905,1.27 -1.905,2.54

## RAD10mm_P [mm] "Radial Capacitor (polarized) 10 mm"
pads (2):
  round 1.5 hole 0.9: 1(0,2.54) 2(0,-2.54)
Top Overlay:
  circle w0.254: c0,0 r5
  lines w0.254: -2.54,1.905 -1.27,1.905 ; -1.905,1.27 -1.905,2.54

## RPDN_May2014-bond_v1 [mil]
pads (96):
  rrect50% 3.15x3.15 on Mech13 paste+0 mask+0: 1(-70,17) 2(-70,13.06) 3(-70,9.13) 4(-70,5.19) 5(-70,1.25) 6(-70,-2.69) 7(-70,-6.62) 8(-70,-10.56) 9(-70,-14.5) 10(-70,-18.43) 11(-66.06,-18.43) 12(-62.13,-18.43) 13(-58.19,-18.43) 14(-54.25,-18.43) 15(-50.31,-18.43) 16(-46.38,-18.43) 17(-42.44,-18.43) 18(-38.5,-18.43) 19(-34.57,-18.43) 20(-30.63,-18.43) 21(-26.69,-18.43) 22(-22.76,-18.43) 23(-18.82,-18.43) 24(-14.88,-18.43) 25(-10.94,-18.43) 26(-7.01,-18.43) 27(-3.07,-18.43) 28(0.87,-18.43) 29(4.8,-18.43) 30(8.74,-18.43) 31(13.46,-18.43) 32(13.46,-14.5) 33(13.46,-10.56) 34(13.46,-6.62) 35(13.46,-2.69) 36(13.46,1.25) 37(13.46,5.19) 38(13.46,9.13) 39(13.46,13.06) 40(13.46,17) 41(8.74,17) 42(4.8,17) 43(0.87,17) 44(-3.07,17) 45(-7.01,17) 46(-10.94,17) 47(-14.88,17) 48(-18.82,17) 49(-22.76,17) 50(-26.69,17) 51(-30.63,17) 52(-34.57,17) 53(-38.5,17) 54(-42.44,17) 55(-46.38,17) 56(-50.31,17) 57(-54.25,17) 58(-58.19,17) 59(-62.13,17) 60(-66.06,17)
  rect 100x6 smd mask+0: 2(-210,32) 4(-210,2) 8(-210,-28) 10(-210,-40) 31(210,-54) 32(210,-42) 33(210,-30) 34(210,-18) 35(210,-6) 36(210,6) 39(210,18)
  rect 100x12 smd mask+0: 3(-210,17) 5(-210,-13) 38(210,33)
  rect 12x100 smd mask+0: 11(-80,-210) 18(-62,-210) 19(-44,-210) 22(-26,-210) 23(-8,-210) 45(10,210) 55(-80,210)
  rect 6x100 smd mask+0: 26(58,-211) 27(70,-211) 28(82,-211) 29(94,-211) 30(106,-211) 41(61,210) 42(49,210) 43(37,210) 44(25,210) 48(-5,210) 49(-17,210) 50(-29,210) 51(-41,210) 52(-53,210) 53(-65,210)
Top Overlay:
  circle w6: c-30,44 r3
  circle w6: c-30,0 r3
  lines w6: -80,-60 -80,-80 -60,-80 ; -80,60 -80,80 -60,80 ; 60,-80 80,-80 80,-60 ; 60,-40 80,-40 80,-20 ; 60,40 80,40 80,20 ; 60,80 80,80 80,60
Top Solder:
  rectangle: 56,-76 76,-44
  rectangle: 57,167 77,199
  rectangle: 56,-36 76,36
  rectangle: -76,-76 56,76
  region: 210,-210 210,-84 -210,-84 -210,-210
  rectangle: -210,-210 -84,210
  rectangle: 84,-210 210,210
  region: 210,84 210,210 -210,210 -210,84
  rectangle: 56,44 76,76
  rectangle: 75,-16 84,16
  rectangle: 75,44 84,56
  rectangle: 76,-56 85,-44
  rectangle: -84,-56 -75,56
  region: 56,-85 56,-76 -56,-76 -56,-85
  region: 56,76 56,85 -56,85 -56,76
Mechanical 13:
  lines w6: -80,-40 80,-40 ; -80,40 80,40 ; -160,-160 160,-160 160,160 -115,160 -160,115 -160,-160 ; -80,-80 80,-80 80,80 -80,80 -80,-80

## RPDN_May2014-bond_v1_bck [mil]
pads (96):
  rrect50% 3.15x3.15 smd paste+0 mask+0: 1(-70,17.5) 2(-70,13.56) 3(-70,9.63) 4(-70,5.69) 5(-70,1.75) 6(-70,-2.19) 7(-70,-6.12) 8(-70,-10.06) 9(-70,-14) 10(-70,-17.93) 11(-66.06,-17.93) 12(-62.13,-17.93) 13(-58.19,-17.93) 14(-54.25,-17.93) 15(-50.31,-17.93) 16(-46.38,-17.93) 17(-42.44,-17.93) 18(-38.5,-17.93) 19(-34.57,-17.93) 20(-30.63,-17.93) 21(-26.69,-17.93) 22(-22.76,-17.93) 23(-18.82,-17.93) 24(-14.88,-17.93) 25(-10.94,-17.93) 26(-7.01,-17.93) 27(-3.07,-17.93) 28(0.87,-17.93) 29(4.8,-17.93) 30(8.74,-17.93) 31(13.46,-17.93) 32(13.46,-14) 33(13.46,-10.06) 34(13.46,-6.12) 35(13.46,-2.19) 36(13.46,1.75) 37(13.46,5.69) 38(13.46,9.63) 39(13.46,13.56) 40(13.46,17.5) 41(8.74,17.5) 42(4.8,17.5) 43(0.87,17.5) 44(-3.07,17.5) 45(-7.01,17.5) 46(-10.94,17.5) 47(-14.88,17.5) 48(-18.82,17.5) 49(-22.76,17.5) 50(-26.69,17.5) 51(-30.63,17.5) 52(-34.57,17.5) 53(-38.5,17.5) 54(-42.44,17.5) 55(-46.38,17.5) 56(-50.31,17.5) 57(-54.25,17.5) 58(-58.19,17.5) 59(-62.13,17.5) 60(-66.06,17.5)
  rect 100x6 smd mask+0: 2(-210,32.5) 4(-210,2.5) 8(-210,-27.5) 10(-210,-39.5) 31(210,-53.5) 32(210,-41.5) 33(210,-29.5) 34(210,-17.5) 35(210,-5.5) 36(210,6.5) 39(210,18.5)
  rect 100x12 smd mask+0: 3(-210,17.5) 5(-210,-12.5) 38(210,33.5)
  rect 12x100 smd mask+0: 11(-80,-209.5) 18(-62,-209.5) 19(-44,-209.5) 22(-26,-209.5) 23(-8,-209.5) 45(10,210.5) 55(-80,210.5)
  rect 6x100 smd mask+0: 26(58,-210.5) 27(70,-210.5) 28(82,-210.5) 29(94,-210.5) 30(106,-210.5) 41(61,210.5) 42(49,210.5) 43(37,210.5) 44(25,210.5) 48(-5,210.5) 49(-17,210.5) 50(-29,210.5) 51(-41,210.5) 52(-53,210.5) 53(-65,210.5)
Top Overlay:
  circle w6: c-30,0.5 r3
  circle w6: c-30,44.5 r3
  lines w6: -80,-39.5 80,-39.5 ; -80,40.5 80,40.5 ; -160,-159.5 -160,115.5 -115,160.5 160,160.5 160,-159.5 -160,-159.5 ; -80,-79.5 -80,80.5 80,80.5 80,-79.5 -80,-79.5

## RPDN_May2014-bond_v2 [mil]
pads (96):
  rrect50% 3.15x3.15 on Mech13 paste+0 mask+0: 1(-70,17) 2(-70,13.06) 3(-70,9.13) 4(-70,5.19) 5(-70,1.25) 6(-70,-2.69) 7(-70,-6.62) 8(-70,-10.56) 9(-70,-14.5) 10(-70,-18.43) 11(-66.06,-18.43) 12(-62.13,-18.43) 13(-58.19,-18.43) 14(-54.25,-18.43) 15(-50.31,-18.43) 16(-46.38,-18.43) 17(-42.44,-18.43) 18(-38.5,-18.43) 19(-34.57,-18.43) 20(-30.63,-18.43) 21(-26.69,-18.43) 22(-22.76,-18.43) 23(-18.82,-18.43) 24(-14.88,-18.43) 25(-10.94,-18.43) 26(-7.01,-18.43) 27(-3.07,-18.43) 28(0.87,-18.43) 29(4.8,-18.43) 30(8.74,-18.43) 31(13.46,-18.43) 32(13.46,-14.5) 33(13.46,-10.56) 34(13.46,-6.62) 35(13.46,-2.69) 36(13.46,1.25) 37(13.46,5.19) 38(13.46,9.13) 39(13.46,13.06) 40(13.46,17) 41(8.74,17) 42(4.8,17) 43(0.87,17) 44(-3.07,17) 45(-7.01,17) 46(-10.94,17) 47(-14.88,17) 48(-18.82,17) 49(-22.76,17) 50(-26.69,17) 51(-30.63,17) 52(-34.57,17) 53(-38.5,17) 54(-42.44,17) 55(-46.38,17) 56(-50.31,17) 57(-54.25,17) 58(-58.19,17) 59(-62.13,17) 60(-66.06,17)
  rrect50% 70x8 smd mask+0: 2(-175,39) 10(-175,-39)
  rrect50% 90x12 smd mask+0: 3(-165,23)
  rrect50% 50x8 smd mask+0: 4(-185,7) 8(-185,-25) 31(155,-52) 32(155,-38) 33(155,-24) 34(155,-10) 35(155,4) 36(155,18) 39(155,32)
  rrect50% 72x12 smd mask+0: 5(-174,-9) 38(144,48)
  rrect50% 12x76 smd mask+0: 11(-80,-97) 18(-62,-97)
  rrect50% 12x58 smd mask+0: 19(-44,-106)
  rrect50% 12x40 smd mask+0: 22(-26,-115)
  rrect50% 12x22 smd mask+0: 23(-8,-124)
  rrect50% 8x60 smd mask+0: 26(29,-105) 27(43,-105) 28(57,-105) 29(71,-105) 30(85,-105)
  rrect50% 8x50 smd mask+0: 41(70,120) 42(56,120) 43(42,120) 44(28,120) 50(-40,120) 51(-54,120) 52(-68,120) 53(-82,120)
  rrect50% 12x72 smd mask+0: 45(12,109) 55(-98,109)
  rrect50% 12x50 smd mask+0: 48(-6,120) 49(-24,120)
Top Layer:
  lines w12: -144,-22 -144,4 ; -126,-28 -126,23 ; -125,79 -65,79 ; -113,-65 -80,-65 ; -62,-65 -31,-65 ; -44,-83 -25,-83 ; -26,-101 -5,-101 -5,-83 ; -12,79 28,79 ; -11,-65 13,-65 13,-119 -8,-119 ; 114,6 114,48
Top Overlay:
  circle w6: c0,0 r700
Top Solder:
  rectangle: 89,-135 180,145
  rectangle: -210,-135 68,145
  rectangle: 68,49 89,145
  rectangle: 68,-135 89,-39
  rectangle: 68,-33 83,43
  rectangle: 83,-19 89,28
Mechanical 13:
  lines w6: 71,-36 86,-36 86,-21 ; 71,46 86,46 86,31 ; -210,-135 -210,145 180,145 180,-135 -210,-135 ; -80,-30 80,-30 80,40 -80,40 -80,-30